# Altium schematic symbol library Components - 23.07.26 - 21.32.SchLib: 1 symbol
Pins are listed as number, name and electrical type; pins without a type are passive.

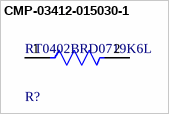
[diagram p0: symbol CMP-03412-015030-1]

## CMP-03412-015030-1
designator R?, comment RT0402BRD0719K6L
RES SMD 19.6K OHM 0.1% 1/16W; Manufacturer: Yageo; Tolerance: 0.001; Value: 19.6KΩ; Power Rating: 0.063W; Temperature Coefficient: 25 ppm/°C; Voltage Rating: 50V; ComponentLink2Description: Datasheet; Device Class L2: Resistors; RoHS: TRUE; Manufacturer Part Number: RT0402BRD0719K6L; Digikey Description: RES SMD 19.6K OHM 0.1% 1/16W; Temperature Range High: +155°C; Category: Res; Device Class L3: Chip SMD Resistors; Automotive: No; Series: RT; Resistance: 19.6KΩ; Lead Free: Yes; Temperature Range Low: -55°C; Temperature: -55°C to +155°C; ComponentLink2URL: http://www.yageo.com/documents/recent/PYu-RT_1-to-0.01_RoHS_L_9.pdf; Composition: Thin Film; Footprint Url: http://www.yageo.com/exep/pages/download/literatures/PYu-R_Mount_10.pdf; Package: RT0402; Octopart: https://octopart.com/rt0402brd0719k6l-yageo-1417851; Height: 0.35mm; Device Class L1: Passive Components; Mouser Description: Thin Film Resistors 1/16W 19.6K ohm .1% 25ppm; Ipc Land Pattern Name: RESC10050X30
footprint FP-RT0402-IPC_C
footprint FP-RT0402-IPC_A
footprint FP-RT0402-MFG
footprint FP-RT0402-IPC_B
pins: 1, 2